# EAGLE library part GPCD9TP340A_DROID (library DROID)
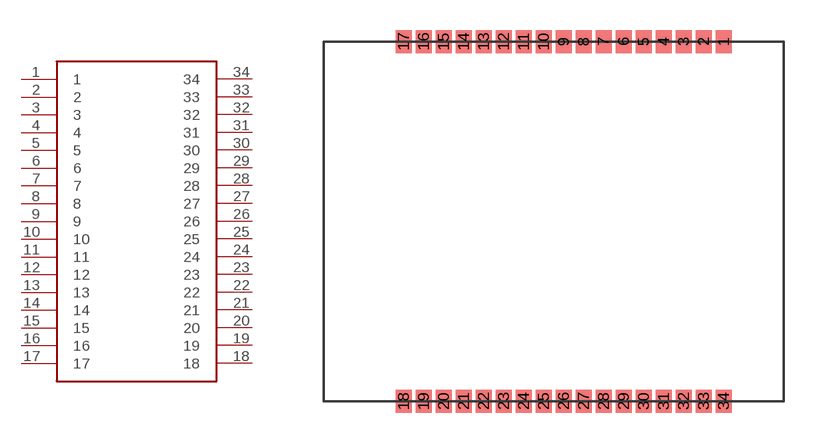
[diagram p1: symbol with the pads of GPCD9TP340A; footprint GPCD9TP340A]

Designator prefix -

## GPCD9TP340A_DROID  [GPCD9TP340A]
1  1
2  2
3  3
4  4
5  5
6  6
7  7
8  8
9  9
10  10
11  11
12  12
13  13
14  14
15  15
16  16
17  17
18  18
19  19
20  20
21  21
22  22
23  23
24  24
25  25
26  26
27  27
28  28
29  29
30  30
31  31
32  32
33  33
34  34

## Footprint GPCD9TP340A (pad centres in mm)
smd 0.8 x 1.15: 1 20,0; 2 19,0; 3 18,0; 4 17,0; 5 16,0; 6 15,0; 7 14,0; 8 13,0; 9 12,0; 10 11,0; 11 10,0; 12 9,0; 13 8,0; 14 7,0; 15 6,0; 16 5,0; 17 4,0; 18 4,-18; 19 5,-18; 20 6,-18; 21 7,-18; 22 8,-18; 23 9,-18; 24 10,-18; 25 11,-18; 26 12,-18; 27 13,-18; 28 14,-18; 29 15,-18; 30 16,-18; 31 17,-18; 32 18,-18; 33 19,-18; 34 20,-18